# EAGLE library part SN74LVC1G27DBVR (library SSI)
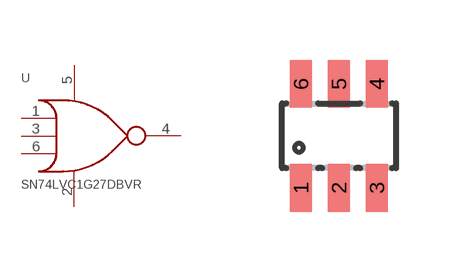
[diagram p13: symbol with the pads of SOT-23-6; footprint SOT-23-6]

Designator prefix -

## SN74LVC1G27DBVR  [SOT-23-6]
1  P$1
2  P$2
3  P$3
4  P$4
5  P$5
6  P$6

## Footprint SOT-23-6 (pad centres in mm)
smd 0.55 x 1.2: 1 -0.95,-1.3; 2 0,-1.3; 3 0.95,-1.3; 4 0.95,1.3; 5 0,1.3; 6 -0.95,1.3